# Altium footprint library 686 1xx 144 22.PcbLib: 17 footprints (part 2 of 2)
Each footprint in its own frame and in the unit in brackets; x right, y up, seen from the top. Pads: shape width x height; smd on the part's side, far side on the other; paste and mask are expansions set on the pad; w line width, h text height; cw(c..) or ccw(c..) is an arc to the next point about the centre after c.
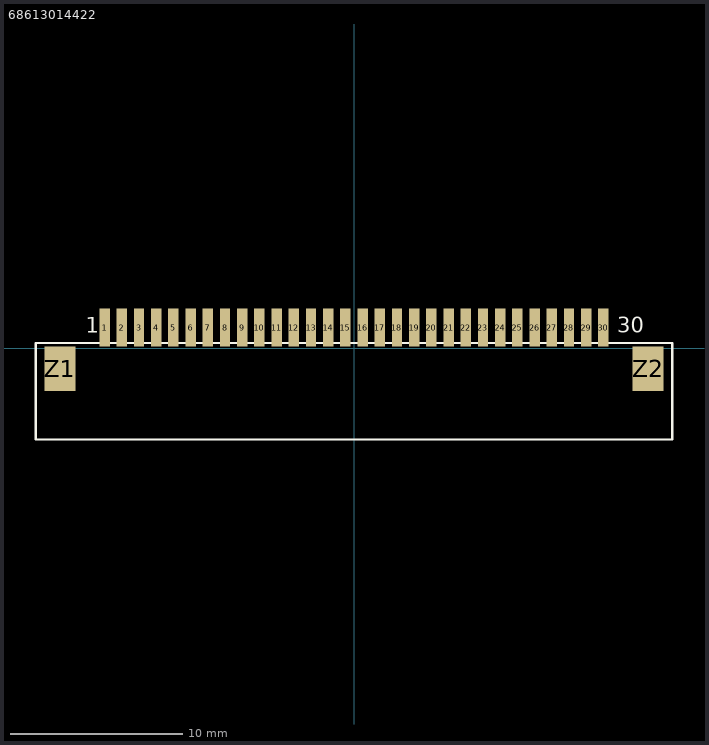
[diagram p1: the footprint, top view; thin cyan lines are the x and y axes]

## 68613014422 [mm] "30 pins"
height 3
pads (32):
  rect 0.6x2.2 smd: 1(-14.5,1.2) 2(-13.5,1.2) 3(-12.5,1.2) 4(-11.5,1.2) 5(-10.5,1.2) 6(-9.5,1.2) 7(-8.5,1.2) 8(-7.5,1.2) 9(-6.5,1.2) 10(-5.5,1.2) 11(-4.5,1.2) 12(-3.5,1.2) 13(-2.5,1.2) 14(-1.5,1.2) 15(-0.5,1.2) 16(0.5,1.2) 17(1.5,1.2) 18(2.5,1.2) 19(3.5,1.2) 20(4.5,1.2) 21(5.5,1.2) 22(6.5,1.2) 23(7.5,1.2) 24(8.5,1.2) 25(9.5,1.2) 26(10.5,1.2) 27(11.5,1.2) 28(12.5,1.2) 29(13.5,1.2) 30(14.5,1.2)
  rect 1.8x2.6 smd: Z1(-17.1,-1.2) Z2(17.1,-1.2)
Top Overlay:
  lines w0.127: -18.5,-5.3 18.5,-5.3 18.5,0.3 -18.5,0.3 -18.5,-5.3
  text "30" at 15.3,0.9 h0.9
  text "1" at -15.6,0.9 h0.9
3D body: height 2.97, standoff -0.04, extent -18.5,-5.3 18.5,1.8